# EAGLE library part ULN2003ANSR (library home)
DRIVER ARRAY
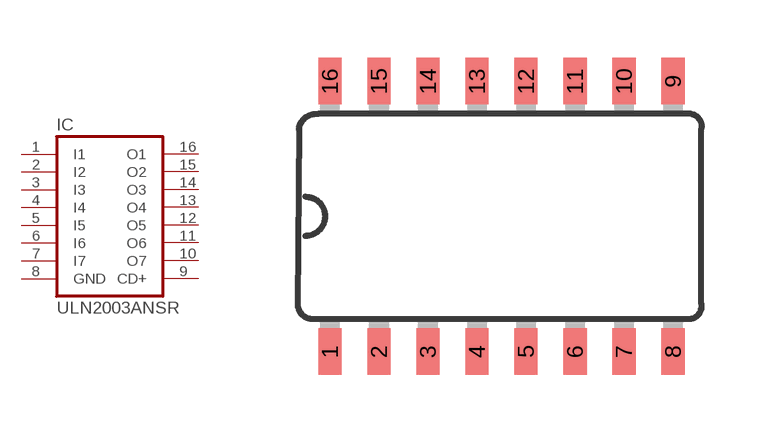
[diagram p6: symbol with the pads of SO16-NS; footprint SO16-NS]

Designator prefix IC

## ULN2003ANSR  [SO16-NS]
1  I1  in
2  I2  in
3  I3  in
4  I4  in
5  I5  in
6  I6  in
7  I7  in
8  GND  pwr
9  CD+  pas
10  O7  oc
11  O6  oc
12  O5  oc
13  O4  oc
14  O3  oc
15  O2  oc
16  O1  oc

## Footprint SO16-NS (pad centres in mm)
Small Outline Package
smd 0.6 x 1.2: 1 -4.445,-3.5; 2 -3.175,-3.5; 3 -1.905,-3.5; 4 -0.635,-3.5; 5 0.635,-3.5; 6 1.905,-3.5; 7 3.175,-3.5; 8 4.445,-3.5; 9 4.445,3.5; 10 3.175,3.5; 11 1.905,3.5; 12 0.635,3.5; 13 -0.635,3.5; 14 -1.905,3.5; 15 -3.175,3.5; 16 -4.445,3.5